# Altium footprint library PcbLib1.PcbLib: 17 footprints (part 2 of 2)
Each footprint in its own frame and in the unit in brackets; x right, y up, seen from the top. Pads: shape width x height; smd on the part's side, far side on the other; paste and mask are expansions set on the pad; w line width, h text height; cw(c..) or ccw(c..) is an arc to the next point about the centre after c.
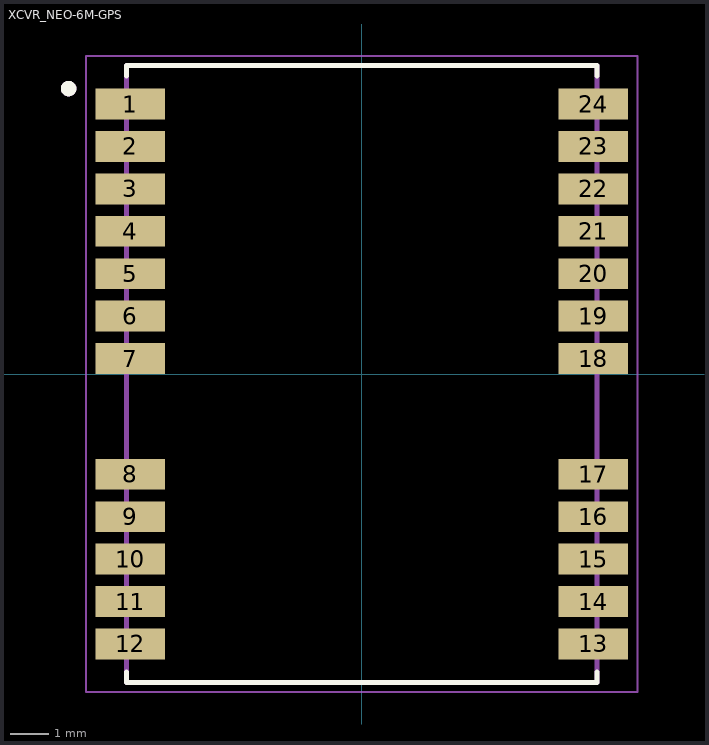
[diagram p1: the footprint, top view; thin cyan lines are the x and y axes]

## XCVR_NEO-6M-GPS [mm]
pads (24):
  rect 1.8x0.8 smd paste-2: 1(-6,7) 2(-6,5.9) 3(-6,4.8) 4(-6,3.7) 5(-6,2.6) 6(-6,1.5) 7(-6,0.4) 8(-6,-2.6) 9(-6,-3.7) 10(-6,-4.8) 11(-6,-5.9) 12(-6,-7) 13(6,-7) 14(6,-5.9) 15(6,-4.8) 16(6,-3.7) 17(6,-2.6) 18(6,0.4) 19(6,1.5) 20(6,2.6) 21(6,3.7) 22(6,4.8) 23(6,5.9) 24(6,7)
Top Overlay:
  circle w0.2: c-7.6,7.4 r0.1
  lines w0.127: -6.1,-7.72 -6.1,-8 6.1,-8 6.1,-7.72 ; -6.1,7.72 -6.1,8 6.1,8 6.1,7.72
Top Paste:
  drawing of 24 lines, arcs and shapes, not listed
Mechanical 13:
  circle w0.2: c-7.6,7.4 r0.1
  lines w0.127: -6.1,-8 -6.1,8 6.1,8 6.1,-8 -6.1,-8
Mechanical 15:
  lines w0.05: -7.15,-8.25 -7.15,8.25 7.15,8.25 7.15,-8.25 -7.15,-8.25
3D body "step_temp.STEP": height 2.6, standoff 0, extent -6.1,-8 6.1,8